# Altium footprint library Connector_JST.PcbLib: 558 footprints (part 35 of 35)
Each footprint in its own frame and in the unit in brackets; x right, y up, seen from the top. Pads: shape width x height; smd on the part's side, far side on the other; paste and mask are expansions set on the pad; w line width, h text height; cw(c..) or ccw(c..) is an arc to the next point about the centre after c.
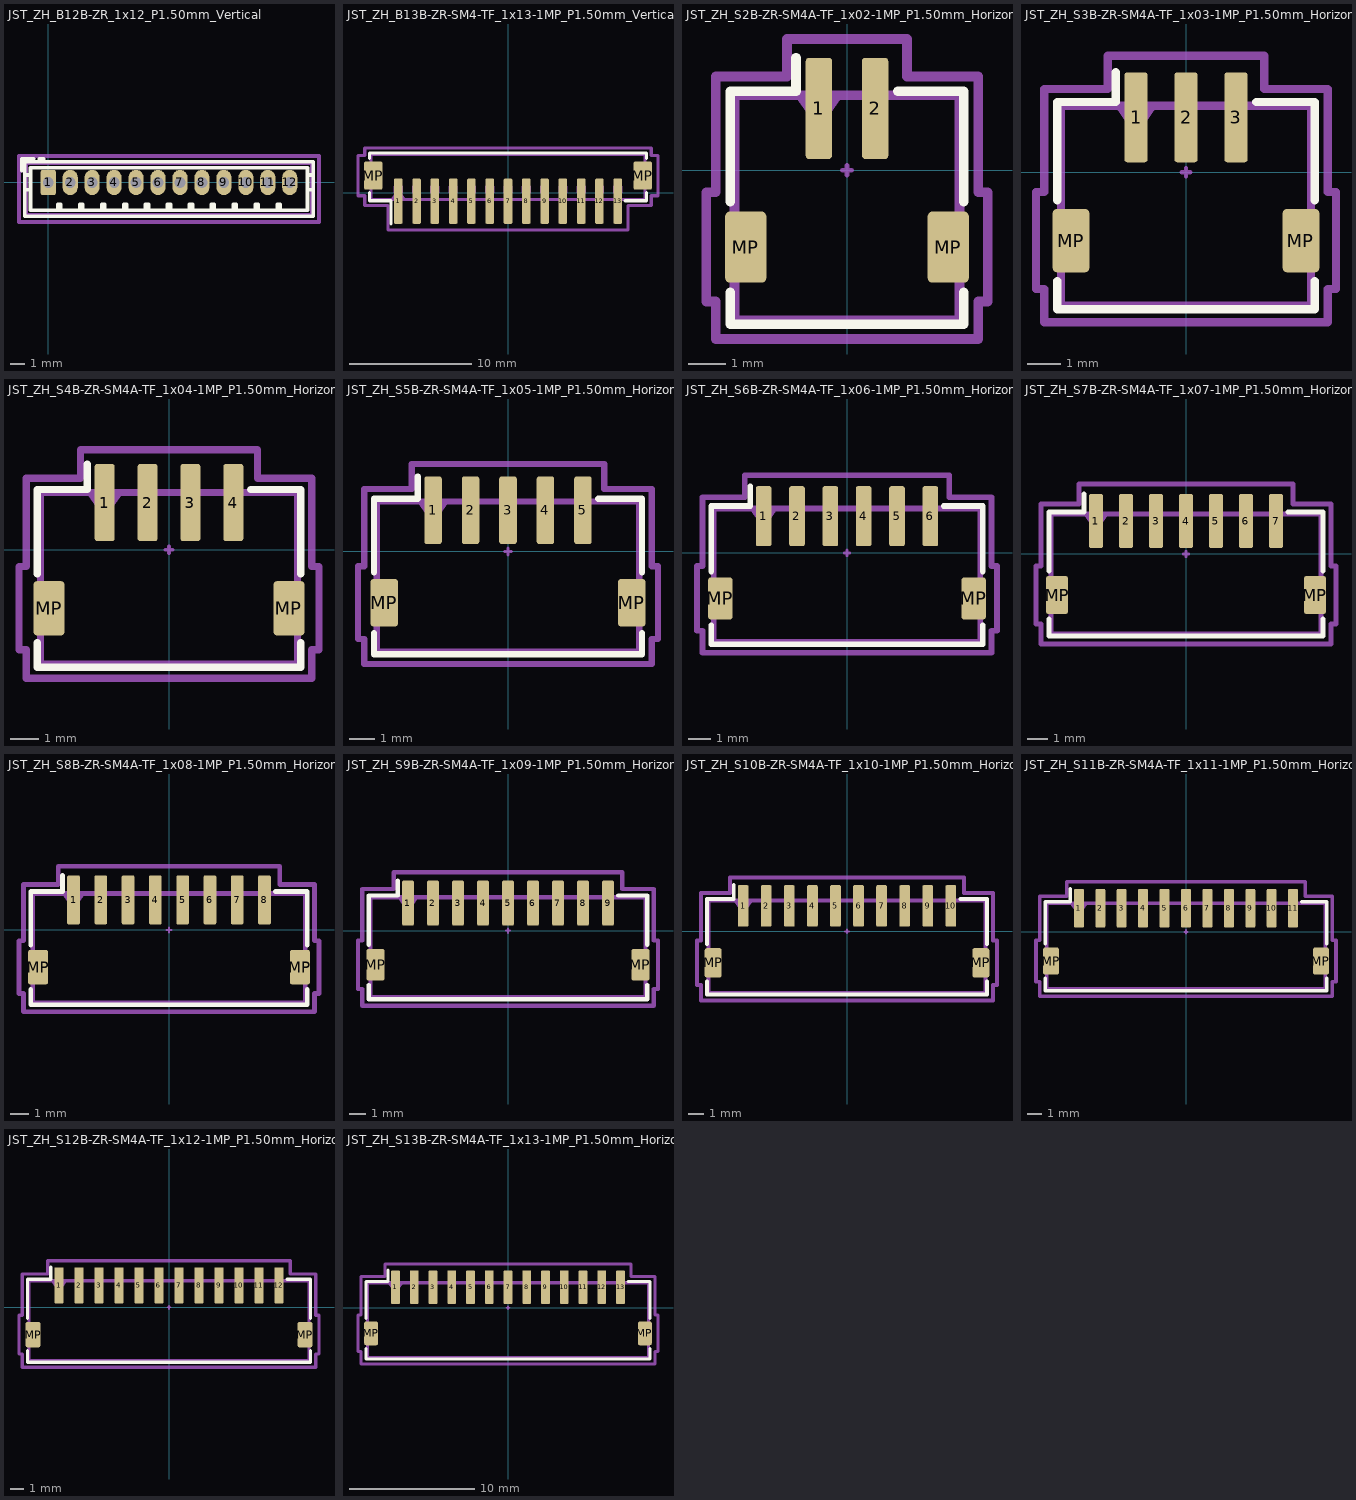
[diagram p34: the footprints below, top view; thin cyan lines are the x and y axes]

## JST_ZH_B12B-ZR_1x12_P1.50mm_Vertical [mm] "JST_ZH_B12B-ZR_1x12_P1.50mm_Vertical"
pads (12):
  rrect24% 1.03x1.73 hole 0.73: 1(0,0)
  rrect100% 1.03x1.73 hole 0.73: 2(1.5,0) 3(3,0) 4(4.5,0) 5(6,0) 6(7.5,0) 7(9,0) 8(10.5,0) 9(12,0) 10(13.5,0) 11(15,0) 12(16.5,0)
F.SilkS:
  lines w0.254: -1.81,0.81 -1.81,1.61 -1.01,1.61 ; -1.61,-0.5 -1.21,-0.5 ; -1.61,0.5 -1.21,0.5 ; -0.6,1.41 -0.6,1.61 -0.3,1.61 -0.3,1.41 ; -0.6,1.51 -0.3,1.51 ; 0.65,-1.91 0.65,-1.51 0.85,-1.51 0.85,-1.91 ; 0.75,-1.91 0.75,-1.51 ; 2.15,-1.91 2.15,-1.51 2.35,-1.51 2.35,-1.91 ; 2.25,-1.91 2.25,-1.51 ; 3.65,-1.91 3.65,-1.51 3.85,-1.51 3.85,-1.91 ; 3.75,-1.91 3.75,-1.51 ; 5.15,-1.91 5.15,-1.51 5.35,-1.51 5.35,-1.91 ; 5.25,-1.91 5.25,-1.51 ; 6.65,-1.91 6.65,-1.51 6.85,-1.51 6.85,-1.91 ; 6.75,-1.91 6.75,-1.51 ; 8.15,-1.91 8.15,-1.51 8.35,-1.51 8.35,-1.91 ; 8.25,-1.91 8.25,-1.51 ; 9.65,-1.91 9.65,-1.51 9.85,-1.51 9.85,-1.91 ; 9.75,-1.91 9.75,-1.51 ; 11.15,-1.91 11.15,-1.51 11.35,-1.51 11.35,-1.91 ; 11.25,-1.91 11.25,-1.51 ; 12.65,-1.91 12.65,-1.51 12.85,-1.51 12.85,-1.91 ; 12.75,-1.91 12.75,-1.51 ; 14.15,-1.91 14.15,-1.51 14.35,-1.51 14.35,-1.91 ; 14.25,-1.91 14.25,-1.51 ; 15.65,-1.91 15.65,-1.51 15.85,-1.51 15.85,-1.91 ; 15.75,-1.91 15.75,-1.51 ; 17.71,-0.5 18.11,-0.5 ; 17.71,0.5 18.11,0.5 ; -1.61,-2.31 -1.61,1.41 18.11,1.41 18.11,-2.31 -1.61,-2.31 ; -1.21,-1.91 -1.21,1.01 17.71,1.01 17.71,-1.91 -1.21,-1.91
Top Component Center:
  lines w0.127: -0.127,0 0.127,0 ; 0,-0.127 0,0.127
Top Assembly:
  lines w0.254: -1.81,0.81 -1.81,1.61 -1.01,1.61 ; -1.5,-2.2 -1.5,1.3 18,1.3 18,-2.2 -1.5,-2.2
Top Courtyard:
  lines w0.254: -2,-2.7 -2,1.8 18.5,1.8 18.5,-2.7 -2,-2.7
Top Designator:
  text ".Designator" at 4.19,-1.614 h1.52

## JST_ZH_B13B-ZR-SM4-TF_1x13-1MP_P1.50mm_Vertical [mm] "JST_ZH_B13B-ZR-SM4-TF_1x13-1MP_P1.50mm_Vertical"
pads (15):
  rrect25% 0.7x3.7 smd: 1(-9,-0.7) 2(-7.5,-0.7) 3(-6,-0.7) 4(-4.5,-0.7) 5(-3,-0.7) 6(-1.5,-0.7) 7(0,-0.7) 8(1.5,-0.7) 9(3,-0.7) 10(4.5,-0.7) 11(6,-0.7) 12(7.5,-0.7) 13(9,-0.7)
  rrect17% 1.5x2.3 smd: MP(-11.05,1.4) MP(11.05,1.4)
F.SilkS:
  lines w0.254: -11.36,-0.01 -11.36,-0.66 -9.61,-0.66 -9.61,-2.55 ; -11.36,2.81 -11.36,3.26 11.36,3.26 11.36,2.81 ; 9.61,-0.66 11.36,-0.66 11.36,-0.01
Top Component Center:
  lines w0.127: -0.127,0 0.127,0 ; 0,-0.127 0,0.127
Top Assembly:
  lines w0.254: -9.5,-0.55 -9,0.157 -8.5,-0.55 ; -11.25,-0.55 11.25,-0.55 11.25,3.15 -11.25,3.15 -11.25,-0.55 ; -9.25,0 -8.75,0 -8.75,0.5 -9.25,0.5 -9.25,0 ; -7.75,0 -7.25,0 -7.25,0.5 -7.75,0.5 -7.75,0 ; -6.25,0 -5.75,0 -5.75,0.5 -6.25,0.5 -6.25,0 ; -4.75,0 -4.25,0 -4.25,0.5 -4.75,0.5 -4.75,0 ; -3.25,0 -2.75,0 -2.75,0.5 -3.25,0.5 -3.25,0 ; -1.75,0 -1.25,0 -1.25,0.5 -1.75,0.5 -1.75,0 ; -0.25,0 0.25,0 0.25,0.5 -0.25,0.5 -0.25,0 ; 1.25,0 1.75,0 1.75,0.5 1.25,0.5 1.25,0 ; 2.75,0 3.25,0 3.25,0.5 2.75,0.5 2.75,0 ; 4.25,0 4.75,0 4.75,0.5 4.25,0.5 4.25,0 ; 5.75,0 6.25,0 6.25,0.5 5.75,0.5 5.75,0 ; 7.25,0 7.75,0 7.75,0.5 7.25,0.5 7.25,0 ; 8.75,0 9.25,0 9.25,0.5 8.75,0.5 8.75,0
Top Courtyard:
  lines w0.254: -12.3,-0.25 -11.75,-0.25 -11.75,-1.05 -9.85,-1.05 -9.85,-3.05 9.85,-3.05 9.85,-1.05 11.75,-1.05 11.75,-0.25 12.3,-0.25 12.3,3.05 11.75,3.05 11.75,3.65 -11.75,3.65 -11.75,3.05 -12.3,3.05 -12.3,-0.25
Top Designator:
  text ".Designator" at -4.065,1.815 h1.52

## JST_ZH_S2B-ZR-SM4A-TF_1x02-1MP_P1.50mm_Horizontal [mm] "JST_ZH_S2B-ZR-SM4A-TF_1x02-1MP_P1.50mm_Horizontal"
pads (4):
  rrect25% 0.7x2.7 smd: 1(-0.75,1.65) 2(0.75,1.65)
  rrect23% 1.1x1.9 smd: MP(-2.7,-2.05) MP(2.7,-2.05)
F.SilkS:
  lines w0.254: -3.11,-3.26 -3.11,-4.11 3.11,-4.11 3.11,-3.26 ; -3.11,-0.84 -3.11,2.11 -1.36,2.11 -1.36,3 ; 1.36,2.11 3.11,2.11 3.11,-0.84
Top Component Center:
  lines w0.127: -0.127,0 0.127,0 ; 0,-0.127 0,0.127
Top Assembly:
  lines w0.254: -1.25,2 -0.75,1.293 -0.25,2 ; -3,-4 -3,2 3,2 3,-4 -3,-4
Top Courtyard:
  lines w0.254: -3.75,-3.5 -3.75,-0.59 -3.5,-0.59 -3.5,2.5 -1.6,2.5 -1.6,3.5 1.6,3.5 1.6,2.5 3.5,2.5 3.5,-0.59 3.75,-0.59 3.75,-3.5 3.5,-3.5 3.5,-4.5 -3.5,-4.5 -3.5,-3.5 -3.75,-3.5
Top Designator:
  text ".Designator" at -3.58,-0.844 h1.52

## JST_ZH_S3B-ZR-SM4A-TF_1x03-1MP_P1.50mm_Horizontal [mm] "JST_ZH_S3B-ZR-SM4A-TF_1x03-1MP_P1.50mm_Horizontal"
pads (5):
  rrect25% 0.7x2.7 smd: 1(-1.5,1.65) 2(0,1.65) 3(1.5,1.65)
  rrect23% 1.1x1.9 smd: MP(-3.45,-2.05) MP(3.45,-2.05)
F.SilkS:
  lines w0.254: -3.86,-3.26 -3.86,-4.11 3.86,-4.11 3.86,-3.26 ; -3.86,-0.84 -3.86,2.11 -2.11,2.11 -2.11,3 ; 2.11,2.11 3.86,2.11 3.86,-0.84
Top Component Center:
  lines w0.127: -0.127,0 0.127,0 ; 0,-0.127 0,0.127
Top Assembly:
  lines w0.254: -2,2 -1.5,1.293 -1,2 ; -3.75,-4 -3.75,2 3.75,2 3.75,-4 -3.75,-4
Top Courtyard:
  lines w0.254: -4.5,-3.5 -4.5,-0.59 -4.25,-0.59 -4.25,2.5 -2.35,2.5 -2.35,3.5 2.35,3.5 2.35,2.5 4.25,2.5 4.25,-0.59 4.5,-0.59 4.5,-3.5 4.25,-3.5 4.25,-4.5 -4.25,-4.5 -4.25,-3.5 -4.5,-3.5
Top Designator:
  text ".Designator" at -3.43,-0.979 h1.52

## JST_ZH_S4B-ZR-SM4A-TF_1x04-1MP_P1.50mm_Horizontal [mm] "JST_ZH_S4B-ZR-SM4A-TF_1x04-1MP_P1.50mm_Horizontal"
pads (6):
  rrect25% 0.7x2.7 smd: 1(-2.25,1.65) 2(-0.75,1.65) 3(0.75,1.65) 4(2.25,1.65)
  rrect23% 1.1x1.9 smd: MP(-4.2,-2.05) MP(4.2,-2.05)
F.SilkS:
  lines w0.254: -4.61,-3.26 -4.61,-4.11 4.61,-4.11 4.61,-3.26 ; -4.61,-0.84 -4.61,2.11 -2.86,2.11 -2.86,3 ; 2.86,2.11 4.61,2.11 4.61,-0.84
Top Component Center:
  lines w0.127: -0.127,0 0.127,0 ; 0,-0.127 0,0.127
Top Assembly:
  lines w0.254: -2.75,2 -2.25,1.293 -1.75,2 ; -4.5,-4 4.5,-4 4.5,2 -4.5,2 -4.5,-4
Top Courtyard:
  lines w0.254: -5.25,-3.5 -5,-3.5 -5,-4.5 5,-4.5 5,-3.5 5.25,-3.5 5.25,-0.59 5,-0.59 5,2.5 3.1,2.5 3.1,3.5 -3.1,3.5 -3.1,2.5 -5,2.5 -5,-0.59 -5.25,-0.59 -5.25,-3.5
Top Designator:
  text ".Designator" at -3.43,-2.376 h1.52

## JST_ZH_S5B-ZR-SM4A-TF_1x05-1MP_P1.50mm_Horizontal [mm] "JST_ZH_S5B-ZR-SM4A-TF_1x05-1MP_P1.50mm_Horizontal"
pads (7):
  rrect25% 0.7x2.7 smd: 1(-3,1.65) 2(-1.5,1.65) 3(0,1.65) 4(1.5,1.65) 5(3,1.65)
  rrect23% 1.1x1.9 smd: MP(-4.95,-2.05) MP(4.95,-2.05)
F.SilkS:
  lines w0.254: -5.36,-3.26 -5.36,-4.11 5.36,-4.11 5.36,-3.26 ; -5.36,-0.84 -5.36,2.11 -3.61,2.11 -3.61,3 ; 3.61,2.11 5.36,2.11 5.36,-0.84
Top Component Center:
  lines w0.127: -0.127,0 0.127,0 ; 0,-0.127 0,0.127
Top Assembly:
  lines w0.254: -3.5,2 -3,1.293 -2.5,2 ; -5.25,-4 5.25,-4 5.25,2 -5.25,2 -5.25,-4
Top Courtyard:
  lines w0.254: -6,-3.5 -5.75,-3.5 -5.75,-4.5 5.75,-4.5 5.75,-3.5 6,-3.5 6,-0.59 5.75,-0.59 5.75,2.5 3.85,2.5 3.85,3.5 -3.85,3.5 -3.85,2.5 -5.75,2.5 -5.75,-0.59 -6,-0.59 -6,-3.5
Top Designator:
  text ".Designator" at -3.43,-1.614 h1.52

## JST_ZH_S6B-ZR-SM4A-TF_1x06-1MP_P1.50mm_Horizontal [mm] "JST_ZH_S6B-ZR-SM4A-TF_1x06-1MP_P1.50mm_Horizontal"
pads (8):
  rrect25% 0.7x2.7 smd: 1(-3.75,1.65) 2(-2.25,1.65) 3(-0.75,1.65) 4(0.75,1.65) 5(2.25,1.65) 6(3.75,1.65)
  rrect23% 1.1x1.9 smd: MP(-5.7,-2.05) MP(5.7,-2.05)
F.SilkS:
  lines w0.254: -6.11,-3.26 -6.11,-4.11 6.11,-4.11 6.11,-3.26 ; -6.11,-0.84 -6.11,2.11 -4.36,2.11 -4.36,3 ; 4.36,2.11 6.11,2.11 6.11,-0.84
Top Component Center:
  lines w0.127: -0.127,0 0.127,0 ; 0,-0.127 0,0.127
Top Assembly:
  lines w0.254: -4.25,2 -3.75,1.293 -3.25,2 ; -6,-4 -6,2 6,2 6,-4 -6,-4
Top Courtyard:
  lines w0.254: -6.75,-3.5 -6.75,-0.59 -6.5,-0.59 -6.5,2.5 -4.6,2.5 -4.6,3.5 4.6,3.5 4.6,2.5 6.5,2.5 6.5,-0.59 6.75,-0.59 6.75,-3.5 6.5,-3.5 6.5,-4.5 -6.5,-4.5 -6.5,-3.5 -6.75,-3.5
Top Designator:
  text ".Designator" at -3.303,-2.122 h1.52

## JST_ZH_S7B-ZR-SM4A-TF_1x07-1MP_P1.50mm_Horizontal [mm] "JST_ZH_S7B-ZR-SM4A-TF_1x07-1MP_P1.50mm_Horizontal"
pads (9):
  rrect25% 0.7x2.7 smd: 1(-4.5,1.65) 2(-3,1.65) 3(-1.5,1.65) 4(0,1.65) 5(1.5,1.65) 6(3,1.65) 7(4.5,1.65)
  rrect23% 1.1x1.9 smd: MP(-6.45,-2.05) MP(6.45,-2.05)
F.SilkS:
  lines w0.254: -6.86,-3.26 -6.86,-4.11 6.86,-4.11 6.86,-3.26 ; -6.86,-0.84 -6.86,2.11 -5.11,2.11 -5.11,3 ; 5.11,2.11 6.86,2.11 6.86,-0.84
Top Component Center:
  lines w0.127: -0.127,0 0.127,0 ; 0,-0.127 0,0.127
Top Assembly:
  lines w0.254: -5,2 -4.5,1.293 -4,2 ; -6.75,-4 6.75,-4 6.75,2 -6.75,2 -6.75,-4
Top Courtyard:
  lines w0.254: -7.5,-3.5 -7.25,-3.5 -7.25,-4.5 7.25,-4.5 7.25,-3.5 7.5,-3.5 7.5,-0.59 7.25,-0.59 7.25,2.5 5.35,2.5 5.35,3.5 -5.35,3.5 -5.35,2.5 -7.25,2.5 -7.25,-0.59 -7.5,-0.59 -7.5,-3.5
Top Designator:
  text ".Designator" at -3.43,-2.376 h1.52

## JST_ZH_S8B-ZR-SM4A-TF_1x08-1MP_P1.50mm_Horizontal [mm] "JST_ZH_S8B-ZR-SM4A-TF_1x08-1MP_P1.50mm_Horizontal"
pads (10):
  rrect25% 0.7x2.7 smd: 1(-5.25,1.65) 2(-3.75,1.65) 3(-2.25,1.65) 4(-0.75,1.65) 5(0.75,1.65) 6(2.25,1.65) 7(3.75,1.65) 8(5.25,1.65)
  rrect23% 1.1x1.9 smd: MP(-7.2,-2.05) MP(7.2,-2.05)
F.SilkS:
  lines w0.254: -7.61,-3.26 -7.61,-4.11 7.61,-4.11 7.61,-3.26 ; -7.61,-0.84 -7.61,2.11 -5.86,2.11 -5.86,3 ; 5.86,2.11 7.61,2.11 7.61,-0.84
Top Component Center:
  lines w0.127: -0.127,0 0.127,0 ; 0,-0.127 0,0.127
Top Assembly:
  lines w0.254: -5.75,2 -5.25,1.293 -4.75,2 ; -7.5,-4 7.5,-4 7.5,2 -7.5,2 -7.5,-4
Top Courtyard:
  lines w0.254: -8.25,-3.5 -8,-3.5 -8,-4.5 8,-4.5 8,-3.5 8.25,-3.5 8.25,-0.59 8,-0.59 8,2.5 6.1,2.5 6.1,3.5 -6.1,3.5 -6.1,2.5 -8,2.5 -8,-0.59 -8.25,-0.59 -8.25,-3.5
Top Designator:
  text ".Designator" at -3.303,-1.995 h1.52

## JST_ZH_S9B-ZR-SM4A-TF_1x09-1MP_P1.50mm_Horizontal [mm] "JST_ZH_S9B-ZR-SM4A-TF_1x09-1MP_P1.50mm_Horizontal"
pads (11):
  rrect25% 0.7x2.7 smd: 1(-6,1.65) 2(-4.5,1.65) 3(-3,1.65) 4(-1.5,1.65) 5(0,1.65) 6(1.5,1.65) 7(3,1.65) 8(4.5,1.65) 9(6,1.65)
  rrect23% 1.1x1.9 smd: MP(-7.95,-2.05) MP(7.95,-2.05)
F.SilkS:
  lines w0.254: -8.36,-3.26 -8.36,-4.11 8.36,-4.11 8.36,-3.26 ; -8.36,-0.84 -8.36,2.11 -6.61,2.11 -6.61,3 ; 6.61,2.11 8.36,2.11 8.36,-0.84
Top Component Center:
  lines w0.127: -0.127,0 0.127,0 ; 0,-0.127 0,0.127
Top Assembly:
  lines w0.254: -6.5,2 -6,1.293 -5.5,2 ; -8.25,-4 8.25,-4 8.25,2 -8.25,2 -8.25,-4
Top Courtyard:
  lines w0.254: -9,-3.5 -8.75,-3.5 -8.75,-4.5 8.75,-4.5 8.75,-3.5 9,-3.5 9,-0.59 8.75,-0.59 8.75,2.5 6.85,2.5 6.85,3.5 -6.85,3.5 -6.85,2.5 -8.75,2.5 -8.75,-0.59 -9,-0.59 -9,-3.5
Top Designator:
  text ".Designator" at -3.43,-1.741 h1.52

## JST_ZH_S10B-ZR-SM4A-TF_1x10-1MP_P1.50mm_Horizontal [mm] "JST_ZH_S10B-ZR-SM4A-TF_1x10-1MP_P1.50mm_Horizontal"
pads (12):
  rrect25% 0.7x2.7 smd: 1(-6.75,1.65) 2(-5.25,1.65) 3(-3.75,1.65) 4(-2.25,1.65) 5(-0.75,1.65) 6(0.75,1.65) 7(2.25,1.65) 8(3.75,1.65) 9(5.25,1.65) 10(6.75,1.65)
  rrect23% 1.1x1.9 smd: MP(-8.7,-2.05) MP(8.7,-2.05)
F.SilkS:
  lines w0.254: -9.11,-3.26 -9.11,-4.11 9.11,-4.11 9.11,-3.26 ; -9.11,-0.84 -9.11,2.11 -7.36,2.11 -7.36,3 ; 7.36,2.11 9.11,2.11 9.11,-0.84
Top Component Center:
  lines w0.127: -0.127,0 0.127,0 ; 0,-0.127 0,0.127
Top Assembly:
  lines w0.254: -7.25,2 -6.75,1.293 -6.25,2 ; -9,-4 9,-4 9,2 -9,2 -9,-4
Top Courtyard:
  lines w0.254: -9.75,-3.5 -9.5,-3.5 -9.5,-4.5 9.5,-4.5 9.5,-3.5 9.75,-3.5 9.75,-0.59 9.5,-0.59 9.5,2.5 7.6,2.5 7.6,3.5 -7.6,3.5 -7.6,2.5 -9.5,2.5 -9.5,-0.59 -9.75,-0.59 -9.75,-3.5
Top Designator:
  text ".Designator" at -3.557,-1.36 h1.52

## JST_ZH_S11B-ZR-SM4A-TF_1x11-1MP_P1.50mm_Horizontal [mm] "JST_ZH_S11B-ZR-SM4A-TF_1x11-1MP_P1.50mm_Horizontal"
pads (13):
  rrect25% 0.7x2.7 smd: 1(-7.5,1.65) 2(-6,1.65) 3(-4.5,1.65) 4(-3,1.65) 5(-1.5,1.65) 6(0,1.65) 7(1.5,1.65) 8(3,1.65) 9(4.5,1.65) 10(6,1.65) 11(7.5,1.65)
  rrect23% 1.1x1.9 smd: MP(-9.45,-2.05) MP(9.45,-2.05)
F.SilkS:
  lines w0.254: -9.86,-3.26 -9.86,-4.11 9.86,-4.11 9.86,-3.26 ; -9.86,-0.84 -9.86,2.11 -8.11,2.11 -8.11,3 ; 8.11,2.11 9.86,2.11 9.86,-0.84
Top Component Center:
  lines w0.127: -0.127,0 0.127,0 ; 0,-0.127 0,0.127
Top Assembly:
  lines w0.254: -8,2 -7.5,1.293 -7,2 ; -9.75,-4 9.75,-4 9.75,2 -9.75,2 -9.75,-4
Top Courtyard:
  lines w0.254: -10.5,-3.5 -10.25,-3.5 -10.25,-4.5 10.25,-4.5 10.25,-3.5 10.5,-3.5 10.5,-0.59 10.25,-0.59 10.25,2.5 8.35,2.5 8.35,3.5 -8.35,3.5 -8.35,2.5 -10.25,2.5 -10.25,-0.59 -10.5,-0.59 -10.5,-3.5
Top Designator:
  text ".Designator" at -3.303,-2.122 h1.52

## JST_ZH_S12B-ZR-SM4A-TF_1x12-1MP_P1.50mm_Horizontal [mm] "JST_ZH_S12B-ZR-SM4A-TF_1x12-1MP_P1.50mm_Horizontal"
pads (14):
  rrect25% 0.7x2.7 smd: 1(-8.25,1.65) 2(-6.75,1.65) 3(-5.25,1.65) 4(-3.75,1.65) 5(-2.25,1.65) 6(-0.75,1.65) 7(0.75,1.65) 8(2.25,1.65) 9(3.75,1.65) 10(5.25,1.65) 11(6.75,1.65) 12(8.25,1.65)
  rrect23% 1.1x1.9 smd: MP(-10.2,-2.05) MP(10.2,-2.05)
F.SilkS:
  lines w0.254: -10.61,-3.26 -10.61,-4.11 10.61,-4.11 10.61,-3.26 ; -10.61,-0.84 -10.61,2.11 -8.86,2.11 -8.86,3 ; 8.86,2.11 10.61,2.11 10.61,-0.84
Top Component Center:
  lines w0.127: -0.127,0 0.127,0 ; 0,-0.127 0,0.127
Top Assembly:
  lines w0.254: -8.75,2 -8.25,1.293 -7.75,2 ; -10.5,-4 -10.5,2 10.5,2 10.5,-4 -10.5,-4
Top Courtyard:
  lines w0.254: -11.25,-3.5 -11.25,-0.59 -11,-0.59 -11,2.5 -9.1,2.5 -9.1,3.5 9.1,3.5 9.1,2.5 11,2.5 11,-0.59 11.25,-0.59 11.25,-3.5 11,-3.5 11,-4.5 -11,-4.5 -11,-3.5 -11.25,-3.5
Top Designator:
  text ".Designator" at -3.43,-0.344 h1.52

## JST_ZH_S13B-ZR-SM4A-TF_1x13-1MP_P1.50mm_Horizontal [mm] "JST_ZH_S13B-ZR-SM4A-TF_1x13-1MP_P1.50mm_Horizontal"
pads (15):
  rrect25% 0.7x2.7 smd: 1(-9,1.65) 2(-7.5,1.65) 3(-6,1.65) 4(-4.5,1.65) 5(-3,1.65) 6(-1.5,1.65) 7(0,1.65) 8(1.5,1.65) 9(3,1.65) 10(4.5,1.65) 11(6,1.65) 12(7.5,1.65) 13(9,1.65)
  rrect23% 1.1x1.9 smd: MP(-10.95,-2.05) MP(10.95,-2.05)
F.SilkS:
  lines w0.254: -11.36,-3.26 -11.36,-4.11 11.36,-4.11 11.36,-3.26 ; -11.36,-0.84 -11.36,2.11 -9.61,2.11 -9.61,3 ; 9.61,2.11 11.36,2.11 11.36,-0.84
Top Component Center:
  lines w0.127: -0.127,0 0.127,0 ; 0,-0.127 0,0.127
Top Assembly:
  lines w0.254: -9.5,2 -9,1.293 -8.5,2 ; -11.25,-4 -11.25,2 11.25,2 11.25,-4 -11.25,-4
Top Courtyard:
  lines w0.254: -12,-3.5 -12,-0.59 -11.75,-0.59 -11.75,2.5 -9.85,2.5 -9.85,3.5 9.85,3.5 9.85,2.5 11.75,2.5 11.75,-0.59 12,-0.59 12,-3.5 11.75,-3.5 11.75,-4.5 -11.75,-4.5 -11.75,-3.5 -12,-3.5
Top Designator:
  text ".Designator" at -3.43,-2.249 h1.52